# Altium footprint library EIA.QFN.PcbLib: 19 footprints (part 2 of 2)
Each footprint in its own frame and in the unit in brackets; x right, y up, seen from the top. Pads: shape width x height; smd on the part's side, far side on the other; paste and mask are expansions set on the pad; w line width, h text height; cw(c..) or ccw(c..) is an arc to the next point about the centre after c.
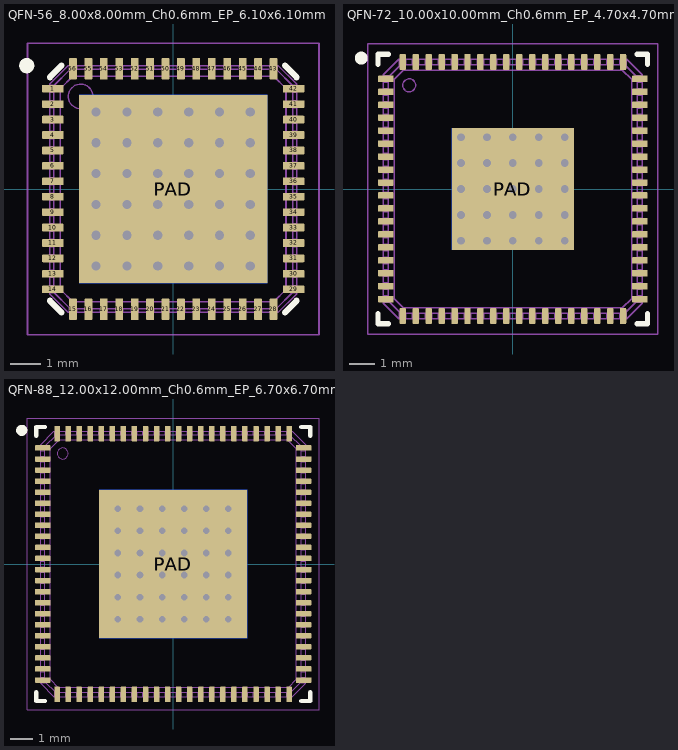
[diagram p1: the footprints below, top view; thin cyan lines are the x and y axes]

## QFN-56_8.00x8.00mm_Ch0.6mm_EP_6.10x6.10mm [mm] "QFN, 56-Leads, Body 8.00x8.00mm, Pitch 0.50mm, Thermal Pad 6.10x6.10mm, IPC Medium Density"
height 1
pads (59):
  rrect20% 0.7x0.25 smd: 1(-3.9,3.25) 2(-3.9,2.75) 3(-3.9,2.25) 4(-3.9,1.75) 5(-3.9,1.25) 6(-3.9,0.75) 7(-3.9,0.25) 8(-3.9,-0.25) 9(-3.9,-0.75) 10(-3.9,-1.25) 11(-3.9,-1.75) 12(-3.9,-2.25) 13(-3.9,-2.75) 14(-3.9,-3.25) 29(3.9,-3.25) 30(3.9,-2.75) 31(3.9,-2.25) 32(3.9,-1.75) 33(3.9,-1.25) 34(3.9,-0.75) 35(3.9,-0.25) 36(3.9,0.25) 37(3.9,0.75) 38(3.9,1.25) 39(3.9,1.75) 40(3.9,2.25) 41(3.9,2.75) 42(3.9,3.25)
  rrect20% 0.25x0.7 smd: 15(-3.25,-3.9) 16(-2.75,-3.9) 17(-2.25,-3.9) 18(-1.75,-3.9) 19(-1.25,-3.9) 20(-0.75,-3.9) 21(-0.25,-3.9) 22(0.25,-3.9) 23(0.75,-3.9) 24(1.25,-3.9) 25(1.75,-3.9) 26(2.25,-3.9) 27(2.75,-3.9) 28(3.25,-3.9) 43(3.25,3.9) 44(2.75,3.9) 45(2.25,3.9) 46(1.75,3.9) 47(1.25,3.9) 48(0.75,3.9) 49(0.25,3.9) 50(-0.25,3.9) 51(-0.75,3.9) 52(-1.25,3.9) 53(-1.75,3.9) 54(-2.25,3.9) 55(-2.75,3.9) 56(-3.25,3.9)
  rect 6.1x6.1 smd: PAD(0,0)
  rect 6.1x6.1 smd far side paste-2539.97: PAD(0,0)
  round 0.5 on Top Overlay: ""(-4.75,4)
via 0.5,0.5 diameter 0.6 hole 0.3
via 1.5,0.5 diameter 0.6 hole 0.3
via 2.5,0.5 diameter 0.6 hole 0.3
via 2.5,-0.5 diameter 0.6 hole 0.3
via 1.5,-0.5 diameter 0.6 hole 0.3
via 0.5,-0.5 diameter 0.6 hole 0.3
via -0.5,0.5 diameter 0.6 hole 0.3
via -1.5,0.5 diameter 0.6 hole 0.3
via -2.5,0.5 diameter 0.6 hole 0.3
via -2.5,-0.5 diameter 0.6 hole 0.3
via -1.5,-0.5 diameter 0.6 hole 0.3
via -0.5,-0.5 diameter 0.6 hole 0.3
via 0.5,1.5 diameter 0.6 hole 0.3
via 1.5,1.5 diameter 0.6 hole 0.3
via 2.5,1.5 diameter 0.6 hole 0.3
via -0.5,1.5 diameter 0.6 hole 0.3
via -1.5,1.5 diameter 0.6 hole 0.3
via -2.5,1.5 diameter 0.6 hole 0.3
via 0.5,2.5 diameter 0.6 hole 0.3
via 1.5,2.5 diameter 0.6 hole 0.3
via 2.5,2.5 diameter 0.6 hole 0.3
via -0.5,2.5 diameter 0.6 hole 0.3
via -1.5,2.5 diameter 0.6 hole 0.3
via -2.5,2.5 diameter 0.6 hole 0.3
via 2.5,-1.5 diameter 0.6 hole 0.3
via 1.5,-1.5 diameter 0.6 hole 0.3
via 0.5,-1.5 diameter 0.6 hole 0.3
via -2.5,-1.5 diameter 0.6 hole 0.3
via -1.5,-1.5 diameter 0.6 hole 0.3
via -0.5,-1.5 diameter 0.6 hole 0.3
via 2.5,-2.5 diameter 0.6 hole 0.3
via 1.5,-2.5 diameter 0.6 hole 0.3
via 0.5,-2.5 diameter 0.6 hole 0.3
via -2.5,-2.5 diameter 0.6 hole 0.3
via -1.5,-2.5 diameter 0.6 hole 0.3
via -0.5,-2.5 diameter 0.6 hole 0.3
Top Overlay:
  lines w0.2: -4,-3.625 -3.625,-4 ; -4,3.625 -3.625,4 ; 3.625,-4 4,-3.625 ; 3.625,4 4,3.625
Mechanical 1:
  circle w0.05: c-3,3 r0.4
  lines w0.05: -4,-3.365 -3.858,-3.365 ; -4,-3.135 -3.875,-3.135 ; -4,-2.865 -3.875,-2.865 ; -4,-2.635 -3.875,-2.635 ; -4,-2.365 -3.875,-2.365 ; -4,-2.135 -3.875,-2.135 ; -4,-1.865 -3.875,-1.865 ; -4,-1.635 -3.875,-1.635 ; -4,-1.365 -3.875,-1.365 ; -4,-1.135 -3.875,-1.135 ; -4,-0.865 -3.875,-0.865 ; -4,-0.635 -3.875,-0.635 ; -4,-0.365 -3.875,-0.365 ; -4,-0.135 -3.875,-0.135 ; -4,0.135 -3.875,0.135 ; -4,0.365 -3.875,0.365 ; -4,0.635 -3.875,0.635 ; -4,0.865 -3.875,0.865 ; -4,1.135 -3.875,1.135 ; -4,1.365 -3.875,1.365 ; -4,1.635 -3.875,1.635 ; -4,1.865 -3.875,1.865 ; -4,2.135 -3.875,2.135 ; -4,2.365 -3.875,2.365 ; -4,2.635 -3.875,2.635 ; -4,2.865 -3.875,2.865 ; -4,3.135 -3.875,3.135 ; -4,3.365 -3.858,3.365 ; -3.365,-4 -3.365,-3.858 ; -3.365,3.858 -3.365,4 ; -3.135,-4 -3.135,-3.875 ; -3.135,3.875 -3.135,4 ; -2.865,-4 -2.865,-3.875 ; -2.865,3.875 -2.865,4 ; -2.635,-4 -2.635,-3.875 ; -2.635,3.875 -2.635,4 ; -2.365,-4 -2.365,-3.875 ; -2.365,3.875 -2.365,4 ; -2.135,-4 -2.135,-3.875 ; -2.135,3.875 -2.135,4 ; -1.865,-4 -1.865,-3.875 ; -1.865,3.875 -1.865,4 ; -1.635,-4 -1.635,-3.875 ; -1.635,3.875 -1.635,4 ; -1.365,-4 -1.365,-3.875 ; -1.365,3.875 -1.365,4 ; -1.135,-4 -1.135,-3.875 ; -1.135,3.875 -1.135,4 ; -0.865,-4 -0.865,-3.875 ; -0.865,3.875 -0.865,4 ; -0.635,-4 -0.635,-3.875 ; -0.635,3.875 -0.635,4 ; -0.365,-4 -0.365,-3.875 ; -0.365,3.875 -0.365,4 ; -0.135,-4 -0.135,-3.875 ; -0.135,3.875 -0.135,4 ; 0.135,-4 0.135,-3.875 ; 0.135,3.875 0.135,4 ; 0.365,-4 0.365,-3.875 ; 0.365,3.875 0.365,4 ; 0.635,-4 0.635,-3.875 ; 0.635,3.875 0.635,4 ; 0.865,-4 0.865,-3.875 ; 0.865,3.875 0.865,4 ; 1.135,-4 1.135,-3.875 ; 1.135,3.875 1.135,4 ; 1.365,-4 1.365,-3.875 ; 1.365,3.875 1.365,4 ; 1.635,-4 1.635,-3.875 ; 1.635,3.875 1.635,4 ; 1.865,-4 1.865,-3.875 ; 1.865,3.875 1.865,4 ; 2.135,-4 2.135,-3.875 ; 2.135,3.875 2.135,4 ; 2.365,-4 2.365,-3.875 ; 2.365,3.875 2.365,4 ; 2.635,-4 2.635,-3.875 ; 2.635,3.875 2.635,4 ; 2.865,-4 2.865,-3.875 ; 2.865,3.875 2.865,4 ; 3.135,-4 3.135,-3.875 ; 3.135,3.875 3.135,4 ; 3.365,-4 3.365,-3.858 ; 3.365,3.858 3.365,4 ; 3.858,-3.365 4,-3.365 ; 3.858,3.365 4,3.365 ; 3.875,-3.135 4,-3.135 ; 3.875,-2.865 4,-2.865 ; 3.875,-2.635 4,-2.635 ; 3.875,-2.365 4,-2.365 ; 3.875,-2.135 4,-2.135 ; 3.875,-1.865 4,-1.865 ; 3.875,-1.635 4,-1.635 ; 3.875,-1.365 4,-1.365 ; 3.875,-1.135 4,-1.135 ; 3.875,-0.865 4,-0.865 ; 3.875,-0.635 4,-0.635 ; 3.875,-0.365 4,-0.365 ; 3.875,-0.135 4,-0.135 ; 3.875,0.135 4,0.135 ; 3.875,0.365 4,0.365 ; 3.875,0.635 4,0.635 ; 3.875,0.865 4,0.865 ; 3.875,1.135 4,1.135 ; 3.875,1.365 4,1.365 ; 3.875,1.635 4,1.635 ; 3.875,1.865 4,1.865 ; 3.875,2.135 4,2.135 ; 3.875,2.365 4,2.365 ; 3.875,2.635 4,2.635 ; 3.875,2.865 4,2.865 ; 3.875,3.135 4,3.135 ; -3.875,-3.348 -3.348,-3.875 ; -3.875,-3.348 -3.875,3.348 ; -3.875,-3.348 -3.656,-3.257 ; -3.875,3.348 -3.348,3.875 ; -3.875,3.348 -3.656,3.257 ; -3.656,-3.257 -3.257,-3.656 ; -3.656,-3.257 -3.656,3.257 ; -3.656,3.257 -3.257,3.656 ; -3.348,-3.875 3.348,-3.875 ; -3.348,-3.875 -3.257,-3.656 ; -3.348,3.875 3.348,3.875 ; -3.348,3.875 -3.257,3.656 ; -3.257,-3.656 3.257,-3.656 ; -3.257,3.656 3.257,3.656 ; 3.257,-3.656 3.656,-3.257 ; 3.257,-3.656 3.348,-3.875 ; 3.257,3.656 3.656,3.257 ; 3.257,3.656 3.348,3.875 ; 3.348,-3.875 3.875,-3.348 ; 3.348,3.875 3.875,3.348 ; 3.656,-3.257 3.656,3.257 ; 3.656,-3.257 3.875,-3.348 ; 3.656,3.257 3.875,3.348 ; 3.875,-3.348 3.875,3.348 ; -4,-3.4 -4,3.4 -3.4,4 3.4,4 4,3.4 4,-3.4 3.4,-4 -3.4,-4 -4,-3.4
Mechanical 15:
  lines w0.05: -4.725,-4.725 4.725,-4.725 4.725,4.725 -4.725,4.725 -4.725,-4.725
  lines w0.1: -0.5,0 0.5,0 ; 0,-0.5 0,0.5
3D body "Analog_Devices_CP-56-1.STEP": height 0.85, standoff 0, extent -4,-4 4,4

## QFN-72_10.00x10.00mm_Ch0.6mm_EP_4.70x4.70mm [mm] "QFN, 72-Leads, Body 10.00x10.00mm, Pitch 0.50mm, Thermal Pad 4.70x4.70mm, IPC Medium Density"
height 1
pads (74):
  rrect20% 0.6x0.25 smd: 1(-4.9,4.25) 2(-4.9,3.75) 3(-4.9,3.25) 4(-4.9,2.75) 5(-4.9,2.25) 6(-4.9,1.75) 7(-4.9,1.25) 8(-4.9,0.75) 9(-4.9,0.25) 10(-4.9,-0.25) 11(-4.9,-0.75) 12(-4.9,-1.25) 13(-4.9,-1.75) 14(-4.9,-2.25) 15(-4.9,-2.75) 16(-4.9,-3.25) 17(-4.9,-3.75) 18(-4.9,-4.25) 37(4.9,-4.25) 38(4.9,-3.75) 39(4.9,-3.25) 40(4.9,-2.75) 41(4.9,-2.25) 42(4.9,-1.75) 43(4.9,-1.25) 44(4.9,-0.75) 45(4.9,-0.25) 46(4.9,0.25) 47(4.9,0.75) 48(4.9,1.25) 49(4.9,1.75) 50(4.9,2.25) 51(4.9,2.75) 52(4.9,3.25) 53(4.9,3.75) 54(4.9,4.25)
  rrect20% 0.25x0.6 smd: 19(-4.25,-4.9) 20(-3.75,-4.9) 21(-3.25,-4.9) 22(-2.75,-4.9) 23(-2.25,-4.9) 24(-1.75,-4.9) 25(-1.25,-4.9) 26(-0.75,-4.9) 27(-0.25,-4.9) 28(0.25,-4.9) 29(0.75,-4.9) 30(1.25,-4.9) 31(1.75,-4.9) 32(2.25,-4.9) 33(2.75,-4.9) 34(3.25,-4.9) 35(3.75,-4.9) 36(4.25,-4.9) 55(4.25,4.9) 56(3.75,4.9) 57(3.25,4.9) 58(2.75,4.9) 59(2.25,4.9) 60(1.75,4.9) 61(1.25,4.9) 62(0.75,4.9) 63(0.25,4.9) 64(-0.25,4.9) 65(-0.75,4.9) 66(-1.25,4.9) 67(-1.75,4.9) 68(-2.25,4.9) 69(-2.75,4.9) 70(-3.25,4.9) 71(-3.75,4.9) 72(-4.25,4.9)
  rect 4.7x4.7 smd: PAD(0,0)
  rect 4.7x4.7 smd far side paste-2539.97: PAD(0,0)
via 1,-1 diameter 0.6 hole 0.3
via 0,-1 diameter 0.6 hole 0.3
via -1,-1 diameter 0.6 hole 0.3
via -2,-1 diameter 0.6 hole 0.3
via -2,-2 diameter 0.6 hole 0.3
via -1,-2 diameter 0.6 hole 0.3
via 0,-2 diameter 0.6 hole 0.3
via 1,-2 diameter 0.6 hole 0.3
via 2,-2 diameter 0.6 hole 0.3
via 2,-1 diameter 0.6 hole 0.3
via 2,1 diameter 0.6 hole 0.3
via 2,2 diameter 0.6 hole 0.3
via 1,2 diameter 0.6 hole 0.3
via 1,1 diameter 0.6 hole 0.3
via -2,1 diameter 0.6 hole 0.3
via -1,1 diameter 0.6 hole 0.3
via -2,2 diameter 0.6 hole 0.3
via -1,2 diameter 0.6 hole 0.3
via 0,2 diameter 0.6 hole 0.3
via 0,1 diameter 0.6 hole 0.3
via 2,0 diameter 0.6 hole 0.3
via 1,0 diameter 0.6 hole 0.3
via 0,0 diameter 0.6 hole 0.3
via -1,0 diameter 0.6 hole 0.3
via -2,0 diameter 0.6 hole 0.3
Top Overlay:
  circle w0.25: c-5.85,5.05 r0.125
  lines w0.2: -5.2,-4.8 -5.2,-5.2 -4.8,-5.2 ; -5.2,4.8 -5.2,5.2 -4.8,5.2 ; 4.8,-5.2 5.2,-5.2 5.2,-4.8 ; 4.8,5.2 5.2,5.2 5.2,4.8
Mechanical 1:
  drawing of 177 lines, arcs and shapes, not listed
Mechanical 15:
  lines w0.05: -5.6,-5.6 5.6,-5.6 5.6,5.6 -5.6,5.6 -5.6,-5.6
  lines w0.1: -0.5,0 0.5,0 ; 0,-0.5 0,0.5
3D body "QFN-72_10.00x10.00mm_Ch_0.60mm_EP_4.70x4.70mm.STEP": height 0.85, standoff 0, extent -5,-5 5,5

## QFN-88_12.00x12.00mm_Ch0.6mm_EP_6.70x6.70mm [mm] "QFN, 88-Leads, Body 12.00x12.00mm, Pitch 0.50mm, Thermal Pad 6.70x6.70mm, IPC Medium Density"
height 0.9
pads (90):
  rrect20% 0.7x0.25 smd: 1(-5.9,5.25) 2(-5.9,4.75) 3(-5.9,4.25) 4(-5.9,3.75) 5(-5.9,3.25) 6(-5.9,2.75) 7(-5.9,2.25) 8(-5.9,1.75) 9(-5.9,1.25) 10(-5.9,0.75) 11(-5.9,0.25) 12(-5.9,-0.25) 13(-5.9,-0.75) 14(-5.9,-1.25) 15(-5.9,-1.75) 16(-5.9,-2.25) 17(-5.9,-2.75) 18(-5.9,-3.25) 19(-5.9,-3.75) 20(-5.9,-4.25) 21(-5.9,-4.75) 22(-5.9,-5.25) 45(5.9,-5.25) 46(5.9,-4.75) 47(5.9,-4.25) 48(5.9,-3.75) 49(5.9,-3.25) 50(5.9,-2.75) 51(5.9,-2.25) 52(5.9,-1.75) 53(5.9,-1.25) 54(5.9,-0.75) 55(5.9,-0.25) 56(5.9,0.25) 57(5.9,0.75) 58(5.9,1.25) 59(5.9,1.75) 60(5.9,2.25) 61(5.9,2.75) 62(5.9,3.25) 63(5.9,3.75) 64(5.9,4.25) 65(5.9,4.75) 66(5.9,5.25)
  rrect20% 0.25x0.7 smd: 23(-5.25,-5.9) 24(-4.75,-5.9) 25(-4.25,-5.9) 26(-3.75,-5.9) 27(-3.25,-5.9) 28(-2.75,-5.9) 29(-2.25,-5.9) 30(-1.75,-5.9) 31(-1.25,-5.9) 32(-0.75,-5.9) 33(-0.25,-5.9) 34(0.25,-5.9) 35(0.75,-5.9) 36(1.25,-5.9) 37(1.75,-5.9) 38(2.25,-5.9) 39(2.75,-5.9) 40(3.25,-5.9) 41(3.75,-5.9) 42(4.25,-5.9) 43(4.75,-5.9) 44(5.25,-5.9) 67(5.25,5.9) 68(4.75,5.9) 69(4.25,5.9) 70(3.75,5.9) 71(3.25,5.9) 72(2.75,5.9) 73(2.25,5.9) 74(1.75,5.9) 75(1.25,5.9) 76(0.75,5.9) 77(0.25,5.9) 78(-0.25,5.9) 79(-0.75,5.9) 80(-1.25,5.9) 81(-1.75,5.9) 82(-2.25,5.9) 83(-2.75,5.9) 84(-3.25,5.9) 85(-3.75,5.9) 86(-4.25,5.9) 87(-4.75,5.9) 88(-5.25,5.9)
  rect 6.7x6.7 smd: PAD(0,0)
  rect 6.7x6.7 smd far side paste-2539.97: PAD(0,0)
via -0.5,-0.5 diameter 0.6 hole 0.3
via 0.5,-0.5 diameter 0.6 hole 0.3
via 1.5,-0.5 diameter 0.6 hole 0.3
via 2.5,-0.5 diameter 0.6 hole 0.3
via -1.5,-0.5 diameter 0.6 hole 0.3
via -2.5,-0.5 diameter 0.6 hole 0.3
via -0.5,0.5 diameter 0.6 hole 0.3
via 0.5,0.5 diameter 0.6 hole 0.3
via 1.5,0.5 diameter 0.6 hole 0.3
via 2.5,0.5 diameter 0.6 hole 0.3
via -1.5,0.5 diameter 0.6 hole 0.3
via -2.5,0.5 diameter 0.6 hole 0.3
via -0.5,1.5 diameter 0.6 hole 0.3
via 0.5,1.5 diameter 0.6 hole 0.3
via 1.5,1.5 diameter 0.6 hole 0.3
via 2.5,1.5 diameter 0.6 hole 0.3
via -1.5,1.5 diameter 0.6 hole 0.3
via -2.5,1.5 diameter 0.6 hole 0.3
via -0.5,2.5 diameter 0.6 hole 0.3
via 0.5,2.5 diameter 0.6 hole 0.3
via 1.5,2.5 diameter 0.6 hole 0.3
via 2.5,2.5 diameter 0.6 hole 0.3
via -1.5,2.5 diameter 0.6 hole 0.3
via -2.5,2.5 diameter 0.6 hole 0.3
via -0.5,-1.5 diameter 0.6 hole 0.3
via 0.5,-1.5 diameter 0.6 hole 0.3
via 1.5,-1.5 diameter 0.6 hole 0.3
via 2.5,-1.5 diameter 0.6 hole 0.3
via -1.5,-1.5 diameter 0.6 hole 0.3
via -2.5,-1.5 diameter 0.6 hole 0.3
via -0.5,-2.5 diameter 0.6 hole 0.3
via 0.5,-2.5 diameter 0.6 hole 0.3
via 1.5,-2.5 diameter 0.6 hole 0.3
via 2.5,-2.5 diameter 0.6 hole 0.3
via -1.5,-2.5 diameter 0.6 hole 0.3
via -2.5,-2.5 diameter 0.6 hole 0.3
Top Overlay:
  circle w0.25: c-6.85,6.05 r0.125
  lines w0.2: -6.2,-5.8 -6.2,-6.2 -5.8,-6.2 ; -6.2,5.8 -6.2,6.2 -5.8,6.2 ; 5.8,-6.2 6.2,-6.2 6.2,-5.8 ; 5.8,6.2 6.2,6.2 6.2,5.8
Mechanical 1:
  drawing of 209 lines, arcs and shapes, not listed
Mechanical 15:
  lines w0.05: -6.6,-6.6 -6.6,6.6 6.6,6.6 6.6,-6.6 -6.6,-6.6
  lines w0.1: -0.5,0 0.5,0 ; 0,-0.5 0,0.5
3D body "Analog_Devices_CP-88-5.STEP": height 0.9, standoff 0, extent -6,-6 6,6